# EAGLE library part M10 (library JOSIAHLIB)
1.27mm / 0.05in pitch headers For connecting to the Moo
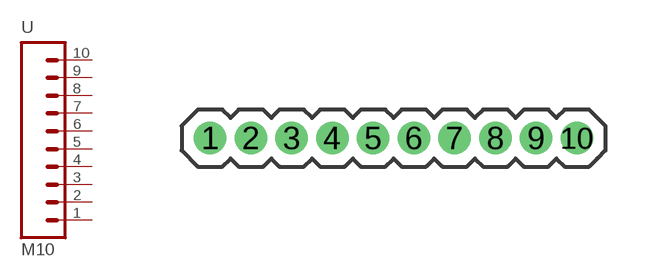
[diagram p1: symbol with the pads of M10; footprint M10]

Designator prefix -

## M10  [M10]
1  1  pas
2  2  pas
3  3  pas
4  4  pas
5  5  pas
6  6  pas
7  7  pas
8  8  pas
9  9  pas
10  10  pas

## Footprint M10 (pad centres in mm)
drill 0.508 pad 1: 1 -6.35,0; 2 -5.08,0; 3 -3.81,0; 4 -2.54,0; 5 -1.27,0; 6 0,0; 7 1.27,0; 8 2.54,0; 9 3.81,0; 10 5.08,0